# EAGLE library part RXM-GPS-R4 (library borkedlabs-transceivers)
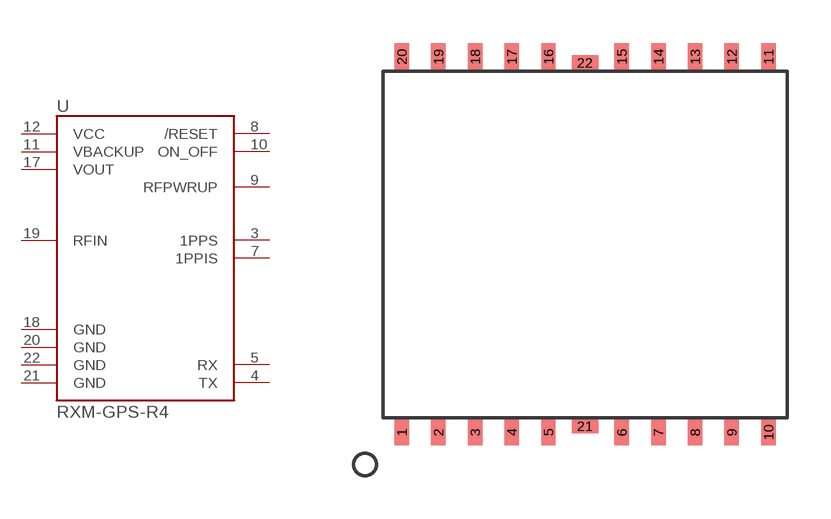
[diagram p2: symbol with the pads of RXM-GPS-R4; footprint RXM-GPS-R4]

Designator prefix U

## RXM-GPS-R4  [RXM-GPS-R4]
3  1PPS
4  TX
5  RX
7  1PPIS
8  /RESET
9  RFPWRUP
10  ON_OFF
11  VBACKUP
12  VCC
17  VOUT
18  GND
19  RFIN
20  GND
21  GND
22  GND

## Footprint RXM-GPS-R4 (pad centres in mm)
smd 0.5 x 0.92: 1 -6.35,-6.5; 2 -5.08,-6.5; 3 -3.81,-6.5; 4 -2.54,-6.5; 5 -1.27,-6.5; 6 1.27,-6.5; 7 2.54,-6.5; 8 3.81,-6.5; 9 5.08,-6.5; 10 6.35,-6.5; 11 6.35,6.5; 12 5.08,6.5; 13 3.81,6.5; 14 2.54,6.5; 15 1.27,6.5; 16 -1.27,6.5; 17 -2.54,6.5; 18 -3.81,6.5; 19 -5.08,6.5; 20 -6.35,6.5
smd 0.92 x 0.5: 21 0,-6.29; 22 0,6.29